# Altium integrated library PIC16F676-I_SL.IntLib: 1 symbol
Pins are listed as number, name and electrical type; pins without a type are passive.

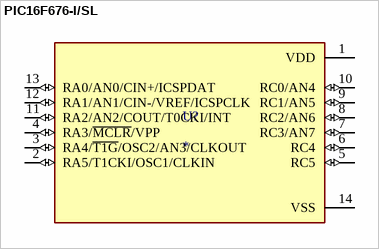
[diagram p0: symbol PIC16F676-I/SL]

## PIC16F676-I/SL
designator U?
14-Pin, 1.75 KB Flash, 64 RAM, 12 I/O | Microchip Technology Inc. PIC16F676-I/SL; SnapEDA_Link: https://www.snapeda.com/parts/PIC16F676-I/SL/Microchip/view-part/?ref=snap; Package: SOIC-14 Microchip; Value: *; MF: Microchip; MP: PIC16F676-I/SL; Check_prices: https://www.snapeda.com/parts/PIC16F676-I/SL/Microchip/view-part/?ref=eda
footprint SOIC127P600X175-14N
pins: 1 VDD (power), 2 RA5/T1CKI/OSC1/CLKIN (io), 3 RA4/~{T1G}/OSC2/AN3/CLKOUT (io), 4 RA3/~{MCLR}/VPP (io), 5 RC5 (io), 6 RC4 (io), 7 RC3/AN7 (io), 8 RC2/AN6 (io), 9 RC1/AN5 (io), 10 RC0/AN4 (io), 11 RA2/AN2/COUT/T0CKI/INT (io), 12 RA1/AN1/CIN-/VREF/ICSPCLK (io), 13 RA0/AN0/CIN+/ICSPDAT (io), 14 VSS (power)